# EAGLE library part VENUS638FLPX (library trackuino)
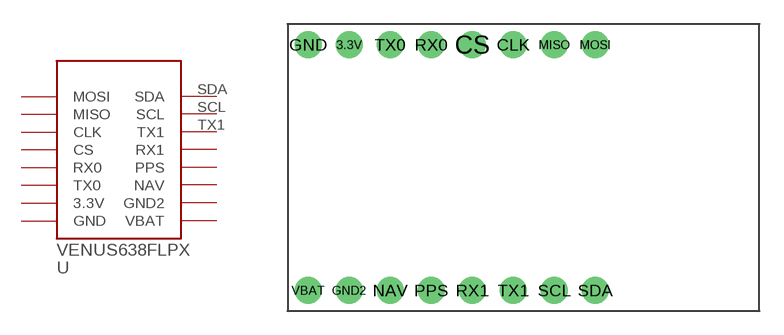
[diagram p6: symbol with the pads of VENUS638FLPX; footprint VENUS638FLPX]

Designator prefix -

## VENUS638FLPX  [VENUS638FLPX]
3.3V  3.3V
CLK  CLK
CS  CS
GND  GND
GND2  GND2
MISO  MISO
MOSI  MOSI
NAV  NAV
PPS  PPS
RX0  RX0
RX1  RX1
SCL  SCL
SDA  SDA
TX0  TX0
TX1  TX1
VBAT  VBAT

## Footprint VENUS638FLPX (pad centres in mm)
drill 0.8 pad 1.676: 3.3V 3.81,16.51; CLK 13.97,16.51; CS 11.43,16.51; GND 1.27,16.51; GND2 3.81,1.27; MISO 16.51,16.51; MOSI 19.05,16.51; NAV 6.35,1.27; PPS 8.89,1.27; RX0 8.89,16.51; RX1 11.43,1.27; SCL 16.51,1.27; SDA 19.05,1.27; TX0 6.35,16.51; TX1 13.97,1.27; VBAT 1.27,1.27